# EAGLE library part U217B (library #PaJa_30_scr)
Spinani triaku v nule a jejich rizeni
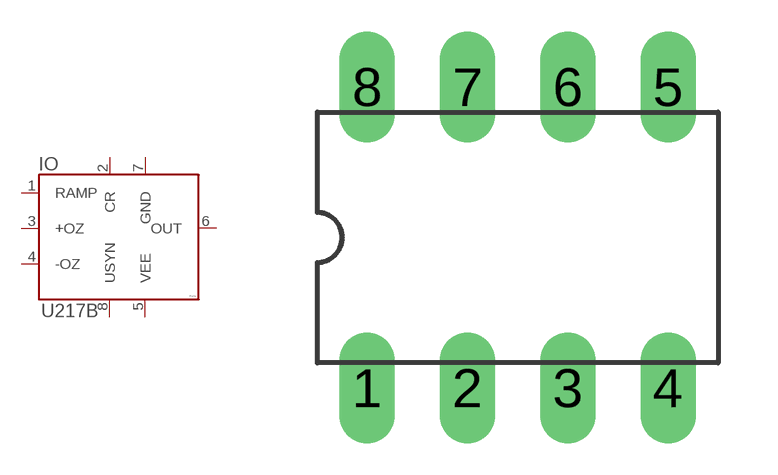
[diagram p38: symbol with the pads of DIL8; footprint DIL8]

Designator prefix IO

## U217B  [DIL8]
1  RAMP  pas
2  CR  pas
3  +OZ  pas
4  -OZ  pas
5  VEE  pas
6  OUT  pas
7  GND  pas
8  USYN  pas

## Footprint DIL8 (pad centres in mm)
drill 0.813 pad 1.4 long: 1 -3.81,-3.81; 2 -1.27,-3.81; 3 1.27,-3.81; 4 3.81,-3.81; 5 3.81,3.81; 6 1.27,3.81; 7 -1.27,3.81; 8 -3.81,3.81